# EAGLE library part BSCHULZ_SAM-M8Q (library TLog)
SAM-M8Q, Ublox 8 series with an integrated antenna
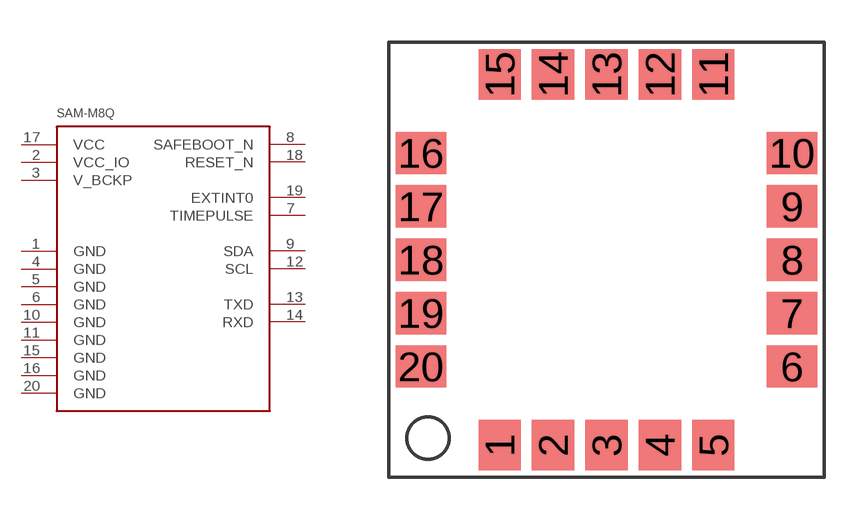
[diagram p10: symbol with the pads of BSCHULZ_SAM-M8Q; footprint BSCHULZ_SAM-M8Q]

Designator prefix -

## BSCHULZ_SAM-M8Q (DIGIKEY: 672-1054-1-ND; MPN: SAM-M8Q-0)  [BSCHULZ_SAM-M8Q]
1  GND
2  VCC_IO
3  V_BCKP
4  GND
5  GND
6  GND
7  TIMEPULSE
8  SAFEBOOT_N
9  SDA
10  GND
11  GND
12  SCL
13  TXD
14  RXD
15  GND
16  GND
17  VCC
18  RESET_N
19  EXTINT0
20  GND

## Footprint BSCHULZ_SAM-M8Q (pad centres in mm)
smd 1.5 x 1.8: 1 -3.8,-6.6; 2 -1.9,-6.6; 3 0,-6.6; 4 1.9,-6.6; 5 3.8,-6.6; 11 3.8,6.6; 12 1.9,6.6; 13 0,6.6; 14 -1.9,6.6; 15 -3.8,6.6
smd 1.8 x 1.5: 6 6.6,-3.8; 7 6.6,-1.9; 8 6.6,0; 9 6.6,1.9; 10 6.6,3.8; 16 -6.6,3.8; 17 -6.6,1.9; 18 -6.6,0; 19 -6.6,-1.9; 20 -6.6,-3.8